# Altium footprint library CAPC200X125X75L45N.PcbLib: 1 footprints
Each footprint in its own frame and in the unit in brackets; x right, y up, seen from the top. Pads: shape width x height; smd on the part's side, far side on the other; paste and mask are expansions set on the pad; w line width, h text height; cw(c..) or ccw(c..) is an arc to the next point about the centre after c.
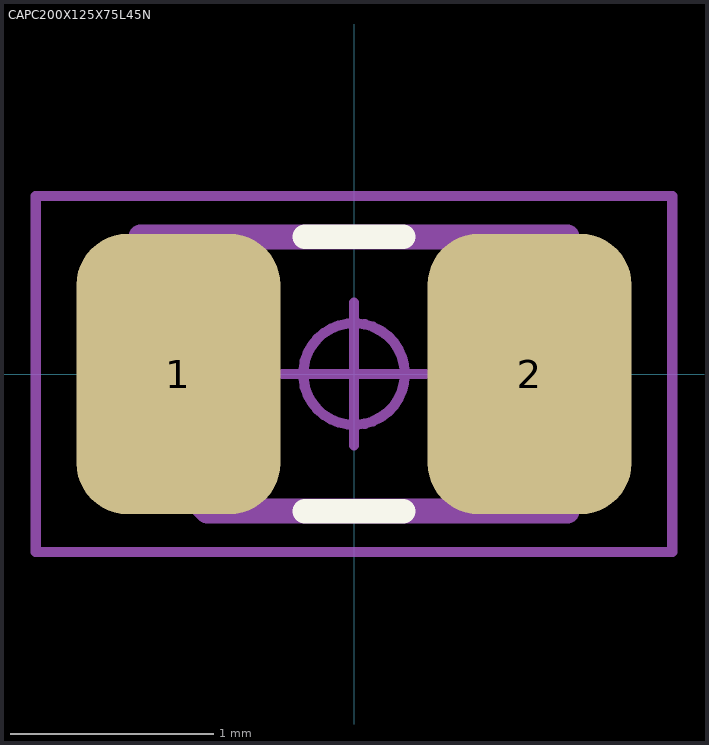
[diagram p0: the footprint, top view; thin cyan lines are the x and y axes]

## CAPC200X125X75L45N [mm] "Capacitor, Non-polarized, Chip; 2.00 mm L X 1.25 mm W X 0.75 mm H Body"
height 0.75
pads (2):
  rrect50% 1.003x1.379 smd: 1(-0.863,0) 2(0.863,0)
Top Overlay:
  lines w0.12: -0.242,-0.675 0.242,-0.675 ; -0.242,0.675 0.242,0.675
Mechanical 3:
  lines w0.12: -1.05,-0.347 -1.05,0.675 1.05,0.675 1.05,-0.675 -0.722,-0.675 -1.05,-0.347
Mechanical 5:
  lines w0.025: -1,-0.625 1,-0.625 ; -1,-0.625 -1,0.625 ; -1,-0.625 -1,0.625 ; -1,-0.625 -0.55,-0.625 -0.55,0.625 -1,0.625 ; -1,0.625 1,0.625 ; 1,-0.625 1,0.625 ; 1,-0.625 0.55,-0.625 0.55,0.625 1,0.625 ; 1,-0.625 1,0.625
Mechanical 7:
  circle w0.05: c0,0 r0.25
  lines w0.05: -0.35,0 0.35,0 ; 0,-0.35 0,0.35 ; -1.565,-0.875 1.565,-0.875 1.565,0.875 -1.565,0.875 -1.565,-0.875
Mechanical 9:
  text "'.Designator'" at -5.944,-0.398 h1.02
3D body "CAPC200X125X75L45.STEP": height 0.75, standoff 0, extent -1,-0.625 1,0.625
3D body: height 23.4, standoff -5, extent -1.565,-0.875 1.565,0.875